# EAGLE library part TPS63070 (library TPS63070)
Texas Instruments TPS63070 Switching Regulator in VQFN. Created by oatcat, published on salted-fish-studio.
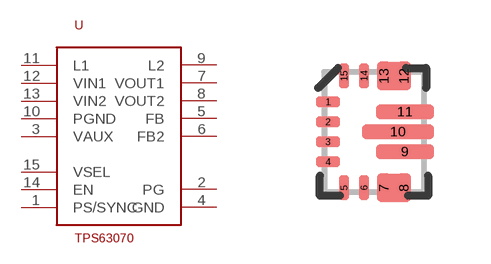
[diagram p0: symbol with the pads of VQFN; footprint VQFN]

Designator prefix U

## TPS63070  [VQFN]
1  PS/SYNC  in
2  PG  out
3  VAUX  out
4  GND  pwr
5  FB  in
6  FB2  out
7  VOUT1  out
8  VOUT2  out
9  L2
10  PGND  pwr
11  L1
12  VIN1  in
13  VIN2  in
14  EN  in
15  VSEL  in

## Footprint VQFN (pad centres in mm)
3mm x 3mm QFN 16 pin
smd 0.6 x 0.25: 1 -1.15,0.75; 2 -1.15,0.25; 3 -1.15,-0.25; 4 -1.15,-0.75
smd 0.25 x 0.6: 5 -0.75,-1.4; 6 -0.25,-1.4; 14 -0.25,1.4; 15 -0.75,1.4
smd 0.35 x 0.7: 7 0.25,-1.4; 8 0.75,-1.4; 12 0.75,1.4; 13 0.25,1.4
smd 1.45 x 0.35: 9 0.775,-0.5; 11 0.775,0.5
smd 1.8 x 0.35: 10 0.6,0